# Altium schematic symbol library TPS51124RGE-VQFN24.SchLib: 1 symbol
Pins are listed as number, name and electrical type; pins without a type are passive.

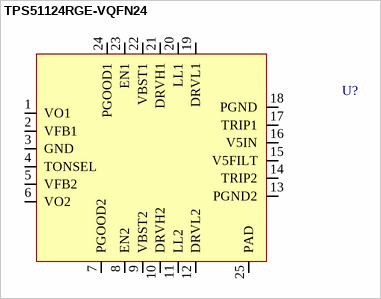
[diagram p0: symbol TPS51124RGE-VQFN24]

## TPS51124RGE-VQFN24
designator U?  (value not drawn)
pins: 1 VO1, 2 VFB1, 3 GND, 4 TONSEL, 5 VFB2, 6 VO2, 7 PGOOD2, 8 EN2, 9 VBST2, 10 DRVH2, 11 LL2, 12 DRVL2, 13 PGND2, 14 TRIP2, 15 V5FILT, 16 V5IN, 17 TRIP1, 18 PGND, 19 DRVL1, 20 LL1, 21 DRVH1, 22 VBST1, 23 EN1, 24 PGOOD1, 25 PAD